# EAGLE library part AD8306 (library custom)
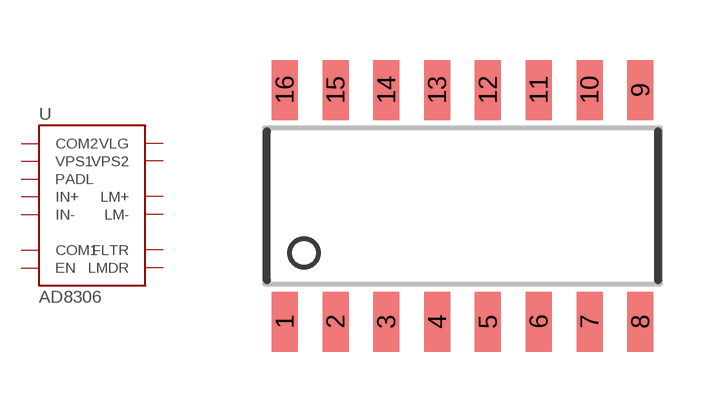
[diagram p85: symbol with the pads of 16-SOIC; footprint 16-SOIC]

Designator prefix U

## AD8306  [16-SOIC]
1  COM2
2  VPS1
3  PADL
4  IN+
5  IN-
6  PADL
7  COM1
8  EN
9  LMDR
10  FLTR
11  PADL
12  LM-
13  LM+
14  PADL
15  VPS2
16  VLG

## Footprint 16-SOIC (pad centres in mm)
smd 0.65 x 1.5: 1 -4.445,-2.9; 2 -3.175,-2.9; 3 -1.905,-2.9; 4 -0.635,-2.9; 5 0.635,-2.9; 6 1.905,-2.9; 7 3.175,-2.9; 8 4.445,-2.9; 9 4.445,2.9; 10 3.175,2.9; 11 1.905,2.9; 12 0.635,2.9; 13 -0.635,2.9; 14 -1.905,2.9; 15 -3.175,2.9; 16 -4.445,2.9